# Altium schematic symbol library WCAP-ATG5.SchLib: 204 symbols (part 3 of 4)
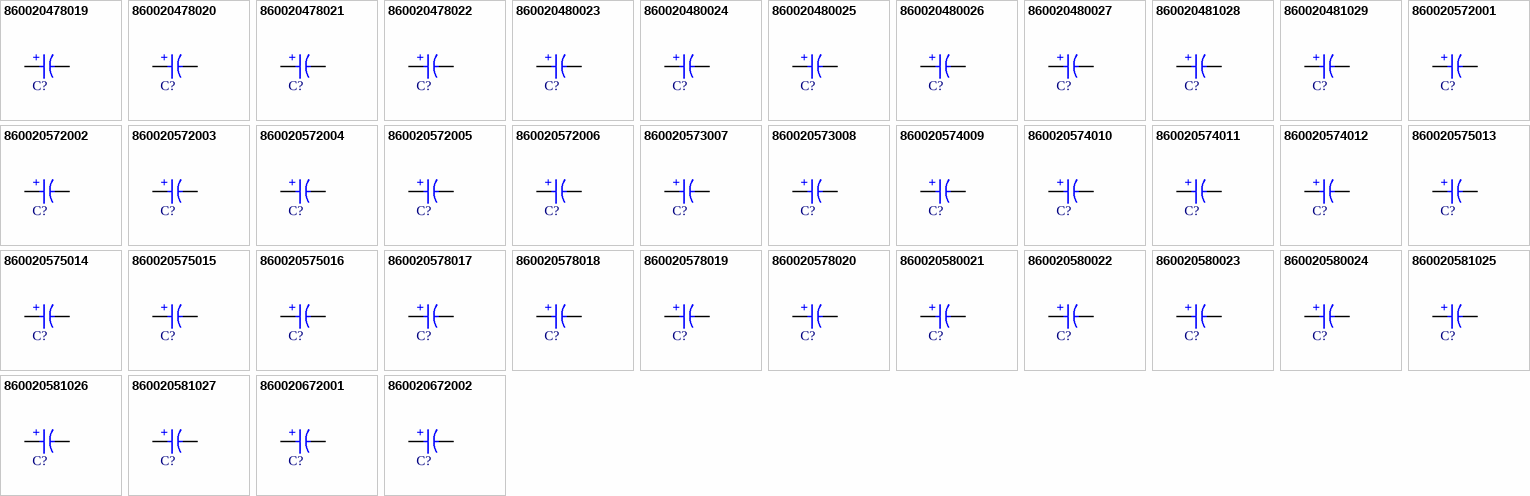
[diagram p7: symbols 860020478019 to 860020672002]

## 860020575013
designator C?, comment 330µF  (value not drawn)
WCAP-ATG5 Aluminum Electrolytic Capacitor, Radial, THT, D10 x H12.5mm, 330µF, 35V; Manufacturer Part Number: 860020575013; Manufacturer: Wurth Elektronik; Capacitance Tolerance: +/-20%; Dissipation Factor: 12%; Endurance: 2000h; Leakage Current: 115.5µA; Ripple Current: 400mA; Technical Reference: ATDF125331M035DSPA9B000; Category: Aluminum Electrolytic Capacitors; Match Code: WCAP-ATG5; ComponentLink1Description: Website Link; ComponentLink1URL: https://www.we-online.com/redexpert/article/860020575013?ad; ComponentLink2Description: Datasheet Link; ComponentLink2URL: https://www.we-online.com/redexpert/spec/860020575013?ad; Mount: Through Hole; Operating Temperature Max: 105°C; Operating Temperature Min: -40°C; Packaging: Ammo Pack; Height: 12.5mm; Diameter: 10mm; Capacitance: 330µF; Rated Voltage (DC): 35V
footprint WCAP-ATG5_D10H12.5
simulation model 860020575013_330uF
pins: 1 P, 2 N
text: +

## 860020575014
designator C?, comment 470µF  (value not drawn)
WCAP-ATG5 Aluminum Electrolytic Capacitor, Radial, THT, D10 x H16mm, 470µF, 35V; Manufacturer Part Number: 860020575014; Manufacturer: Wurth Elektronik; Capacitance Tolerance: +/-20%; Dissipation Factor: 12%; Endurance: 2000h; Leakage Current: 164.5µA; Ripple Current: 520mA; Technical Reference: ATDF160471M035DSPAAB000; Category: Aluminum Electrolytic Capacitors; Match Code: WCAP-ATG5; ComponentLink1Description: Website Link; ComponentLink1URL: https://www.we-online.com/redexpert/article/860020575014?ad; ComponentLink2Description: Datasheet Link; ComponentLink2URL: https://www.we-online.com/redexpert/spec/860020575014?ad; Mount: Through Hole; Operating Temperature Max: 105°C; Operating Temperature Min: -40°C; Packaging: Ammo Pack; Height: 16mm; Diameter: 10mm; Capacitance: 470µF; Rated Voltage (DC): 35V
footprint WCAP-ATG5_D10H16
simulation model 860020575014_470uF
pins: 1 P, 2 N
text: +

## 860020575015
designator C?, comment 560µF  (value not drawn)
WCAP-ATG5 Aluminum Electrolytic Capacitor, Radial, THT, D10 x H20mm, 560µF, 35V; Manufacturer Part Number: 860020575015; Manufacturer: Wurth Elektronik; Capacitance Tolerance: +/-20%; Dissipation Factor: 12%; Endurance: 2000h; Leakage Current: 196µA; Ripple Current: 540mA; Technical Reference: ATDF200561M035DSPAAB000; Category: Aluminum Electrolytic Capacitors; Match Code: WCAP-ATG5; ComponentLink1Description: Website Link; ComponentLink1URL: https://www.we-online.com/redexpert/article/860020575015?ad; ComponentLink2Description: Datasheet Link; ComponentLink2URL: https://www.we-online.com/redexpert/spec/860020575015?ad; Mount: Through Hole; Operating Temperature Max: 105°C; Operating Temperature Min: -40°C; Packaging: Ammo Pack; Height: 20mm; Diameter: 10mm; Capacitance: 560µF; Rated Voltage (DC): 35V
footprint WCAP-ATG5_D10H20
simulation model 860020575015_560uF
pins: 1 P, 2 N
text: +

## 860020575016
designator C?, comment 680µF  (value not drawn)
WCAP-ATG5 Aluminum Electrolytic Capacitor, Radial, THT, D10 x H20mm, 680µF, 35V; Manufacturer Part Number: 860020575016; Manufacturer: Wurth Elektronik; Capacitance Tolerance: +/-20%; Dissipation Factor: 12%; Endurance: 2000h; Leakage Current: 238µA; Ripple Current: 560mA; Technical Reference: ATDF200681M035DSPAAB000; Category: Aluminum Electrolytic Capacitors; Match Code: WCAP-ATG5; ComponentLink1Description: Website Link; ComponentLink1URL: https://www.we-online.com/redexpert/article/860020575016?ad; ComponentLink2Description: Datasheet Link; ComponentLink2URL: https://www.we-online.com/redexpert/spec/860020575016?ad; Mount: Through Hole; Operating Temperature Max: 105°C; Operating Temperature Min: -40°C; Packaging: Ammo Pack; Height: 20mm; Diameter: 10mm; Capacitance: 680µF; Rated Voltage (DC): 35V
footprint WCAP-ATG5_D10H20
simulation model 860020575016_680uF
pins: 1 P, 2 N
text: +

## 860020578017
designator C?, comment 820µF  (value not drawn)
WCAP-ATG5 Aluminum Electrolytic Capacitor, Radial, THT, D13 x H20mm, 820µF, 35V; Manufacturer Part Number: 860020578017; Manufacturer: Wurth Elektronik; Capacitance Tolerance: +/-20%; Dissipation Factor: 12%; Endurance: 2000h; Leakage Current: 287µA; Ripple Current: 760mA; Technical Reference: ATDI200821M035DSPACB000; Category: Aluminum Electrolytic Capacitors; Match Code: WCAP-ATG5; ComponentLink1Description: Website Link; ComponentLink1URL: https://www.we-online.com/redexpert/article/860020578017?ad; ComponentLink2Description: Datasheet Link; ComponentLink2URL: https://www.we-online.com/redexpert/spec/860020578017?ad; Mount: Through Hole; Operating Temperature Max: 105°C; Operating Temperature Min: -40°C; Packaging: Ammo Pack; Height: 20mm; Diameter: 13mm; Capacitance: 820µF; Rated Voltage (DC): 35V
footprint WCAP-ATG5_D13H20
simulation model 860020578017_820uF
pins: 1 P, 2 N
text: +

## 860020578018
designator C?, comment 1000µF  (value not drawn)
WCAP-ATG5 Aluminum Electrolytic Capacitor, Radial, THT, D13 x H20mm, 1000µF, 35V; Manufacturer Part Number: 860020578018; Manufacturer: Wurth Elektronik; Capacitance Tolerance: +/-20%; Dissipation Factor: 12%; Endurance: 2000h; Leakage Current: 350µA; Ripple Current: 830mA; Technical Reference: ATDI200102M035DSPACB000; Category: Aluminum Electrolytic Capacitors; Match Code: WCAP-ATG5; ComponentLink1Description: Website Link; ComponentLink1URL: https://www.we-online.com/redexpert/article/860020578018?ad; ComponentLink2Description: Datasheet Link; ComponentLink2URL: https://www.we-online.com/redexpert/spec/860020578018?ad; Mount: Through Hole; Operating Temperature Max: 105°C; Operating Temperature Min: -40°C; Packaging: Ammo Pack; Height: 20mm; Diameter: 13mm; Capacitance: 1000µF; Rated Voltage (DC): 35V
footprint WCAP-ATG5_D13H20
simulation model 860020578018_1mF
pins: 1 P, 2 N
text: +

## 860020578019
designator C?, comment 1200µF  (value not drawn)
WCAP-ATG5 Aluminum Electrolytic Capacitor, Radial, THT, D13 x H20mm, 1200µF, 35V; Manufacturer Part Number: 860020578019; Manufacturer: Wurth Elektronik; Capacitance Tolerance: +/-20%; Dissipation Factor: 12%; Endurance: 2000h; Leakage Current: 420µA; Ripple Current: 900mA; Technical Reference: ATDI200122M035DSPACB000; Category: Aluminum Electrolytic Capacitors; Match Code: WCAP-ATG5; ComponentLink1Description: Website Link; ComponentLink1URL: https://www.we-online.com/redexpert/article/860020578019?ad; ComponentLink2Description: Datasheet Link; ComponentLink2URL: https://www.we-online.com/redexpert/spec/860020578019?ad; Mount: Through Hole; Operating Temperature Max: 105°C; Operating Temperature Min: -40°C; Packaging: Ammo Pack; Height: 20mm; Diameter: 13mm; Capacitance: 1200µF; Rated Voltage (DC): 35V
footprint WCAP-ATG5_D13H20
simulation model 860020578019_1.2mF
pins: 1 P, 2 N
text: +

## 860020578020
designator C?, comment 1500µF  (value not drawn)
WCAP-ATG5 Aluminum Electrolytic Capacitor, Radial, THT, D13 x H25mm, 1500µF, 35V; Manufacturer Part Number: 860020578020; Manufacturer: Wurth Elektronik; Capacitance Tolerance: +/-20%; Dissipation Factor: 12%; Endurance: 2000h; Leakage Current: 525µA; Ripple Current: 960mA; Technical Reference: ATDI250152M035DSPACB000; Category: Aluminum Electrolytic Capacitors; Match Code: WCAP-ATG5; ComponentLink1Description: Website Link; ComponentLink1URL: https://www.we-online.com/redexpert/article/860020578020?ad; ComponentLink2Description: Datasheet Link; ComponentLink2URL: https://www.we-online.com/redexpert/spec/860020578020?ad; Mount: Through Hole; Operating Temperature Max: 105°C; Operating Temperature Min: -40°C; Packaging: Ammo Pack; Height: 25mm; Diameter: 13mm; Capacitance: 1500µF; Rated Voltage (DC): 35V
footprint WCAP-ATG5_D13H25
simulation model 860020578020_1.5mF
pins: 1 P, 2 N
text: +

## 860020580021
designator C?, comment 1800µF  (value not drawn)
WCAP-ATG5 Aluminum Electrolytic Capacitor, Radial, THT, D16 x H25mm, 1800µF, 35V; Manufacturer Part Number: 860020580021; Manufacturer: Wurth Elektronik; Capacitance Tolerance: +/-20%; Dissipation Factor: 12%; Endurance: 2000h; Leakage Current: 630µA; Ripple Current: 1150mA; Technical Reference: ATDK250182M035DSPAEB000; Category: Aluminum Electrolytic Capacitors; Match Code: WCAP-ATG5; ComponentLink1Description: Website Link; ComponentLink1URL: https://www.we-online.com/redexpert/article/860020580021?ad; ComponentLink2Description: Datasheet Link; ComponentLink2URL: https://www.we-online.com/redexpert/spec/860020580021?ad; Mount: Through Hole; Operating Temperature Max: 105°C; Operating Temperature Min: -40°C; Packaging: Ammo Pack; Height: 25mm; Diameter: 16mm; Capacitance: 1800µF; Rated Voltage (DC): 35V
footprint WCAP-ATG5_D16H25
simulation model 860020580021_1.8mF
pins: 1 P, 2 N
text: +

## 860020580022
designator C?, comment 2200µF  (value not drawn)
WCAP-ATG5 Aluminum Electrolytic Capacitor, Radial, THT, D16 x H25mm, 2200µF, 35V; Manufacturer Part Number: 860020580022; Manufacturer: Wurth Elektronik; Capacitance Tolerance: +/-20%; Dissipation Factor: 12%; Endurance: 2000h; Leakage Current: 770µA; Ripple Current: 1290mA; Technical Reference: ATDK250222M035DSPAEB000; Category: Aluminum Electrolytic Capacitors; Match Code: WCAP-ATG5; ComponentLink1Description: Website Link; ComponentLink1URL: https://www.we-online.com/redexpert/article/860020580022?ad; ComponentLink2Description: Datasheet Link; ComponentLink2URL: https://www.we-online.com/redexpert/spec/860020580022?ad; Mount: Through Hole; Operating Temperature Max: 105°C; Operating Temperature Min: -40°C; Packaging: Ammo Pack; Height: 25mm; Diameter: 16mm; Capacitance: 2200µF; Rated Voltage (DC): 35V
footprint WCAP-ATG5_D16H25
simulation model 860020580022_2.2mF
pins: 1 P, 2 N
text: +

## 860020580023
designator C?, comment 2700µF  (value not drawn)
WCAP-ATG5 Aluminum Electrolytic Capacitor, Radial, THT, D16 x H31.5mm, 2700µF, 35V; Manufacturer Part Number: 860020580023; Manufacturer: Wurth Elektronik; Capacitance Tolerance: +/-20%; Dissipation Factor: 12%; Endurance: 2000h; Leakage Current: 945µA; Ripple Current: 1480mA; Technical Reference: ATDK315272M035DSPADB000; Category: Aluminum Electrolytic Capacitors; Match Code: WCAP-ATG5; ComponentLink1Description: Website Link; ComponentLink1URL: https://www.we-online.com/redexpert/article/860020580023?ad; ComponentLink2Description: Datasheet Link; ComponentLink2URL: https://www.we-online.com/redexpert/spec/860020580023?ad; Mount: Through Hole; Operating Temperature Max: 105°C; Operating Temperature Min: -40°C; Packaging: Ammo Pack; Height: 31.5mm; Diameter: 16mm; Capacitance: 2700µF; Rated Voltage (DC): 35V
footprint WCAP-ATG5_D16H31.5
simulation model 860020580023_2.7mF
pins: 1 P, 2 N
text: +

## 860020580024
designator C?, comment 3300µF  (value not drawn)
WCAP-ATG5 Aluminum Electrolytic Capacitor, Radial, THT, D16 x H35.5mm, 3300µF, 35V; Manufacturer Part Number: 860020580024; Manufacturer: Wurth Elektronik; Capacitance Tolerance: +/-20%; Dissipation Factor: 12%; Endurance: 2000h; Leakage Current: 1155µA; Ripple Current: 1650mA; Technical Reference: ATDK355332M035DSPADB000; Category: Aluminum Electrolytic Capacitors; Match Code: WCAP-ATG5; ComponentLink1Description: Website Link; ComponentLink1URL: https://www.we-online.com/redexpert/article/860020580024?ad; ComponentLink2Description: Datasheet Link; ComponentLink2URL: https://www.we-online.com/redexpert/spec/860020580024?ad; Mount: Through Hole; Operating Temperature Max: 105°C; Operating Temperature Min: -40°C; Packaging: Ammo Pack; Height: 35.5mm; Diameter: 16mm; Capacitance: 3300µF; Rated Voltage (DC): 35V
footprint WCAP-ATG5_D16H35.5
simulation model 860020580024_3.3mF
pins: 1 P, 2 N
text: +

## 860020581025
designator C?, comment 3900µF  (value not drawn)
WCAP-ATG5 Aluminum Electrolytic Capacitor, Radial, THT, D18 x H31.5mm, 3900µF, 35V; Manufacturer Part Number: 860020581025; Manufacturer: Wurth Elektronik; Capacitance Tolerance: +/-20%; Dissipation Factor: 12%; Endurance: 2000h; Leakage Current: 1365µA; Ripple Current: 1820mA; Technical Reference: ATDL315392M035DSPAEB000; Category: Aluminum Electrolytic Capacitors; Match Code: WCAP-ATG5; ComponentLink1Description: Website Link; ComponentLink1URL: https://www.we-online.com/redexpert/article/860020581025?ad; ComponentLink2Description: Datasheet Link; ComponentLink2URL: https://www.we-online.com/redexpert/spec/860020581025?ad; Mount: Through Hole; Operating Temperature Max: 105°C; Operating Temperature Min: -40°C; Packaging: Ammo Pack; Height: 31.5mm; Diameter: 18mm; Capacitance: 3900µF; Rated Voltage (DC): 35V
footprint WCAP-ATG5_D18H31.5
simulation model 860020581025_3.9mF
pins: 1 P, 2 N
text: +

## 860020581026
designator C?, comment 4700µF  (value not drawn)
WCAP-ATG5 Aluminum Electrolytic Capacitor, Radial, THT, D18 x H35.5mm, 4700µF, 35V; Manufacturer Part Number: 860020581026; Manufacturer: Wurth Elektronik; Capacitance Tolerance: +/-20%; Dissipation Factor: 12%; Endurance: 2000h; Leakage Current: 1645µA; Ripple Current: 1900mA; Technical Reference: ATDL355472M035DSPAEB000; Category: Aluminum Electrolytic Capacitors; Match Code: WCAP-ATG5; ComponentLink1Description: Website Link; ComponentLink1URL: https://www.we-online.com/redexpert/article/860020581026?ad; ComponentLink2Description: Datasheet Link; ComponentLink2URL: https://www.we-online.com/redexpert/spec/860020581026?ad; Mount: Through Hole; Operating Temperature Max: 105°C; Operating Temperature Min: -40°C; Packaging: Ammo Pack; Height: 35.5mm; Diameter: 18mm; Capacitance: 4700µF; Rated Voltage (DC): 35V
footprint WCAP-ATG5_D18H35.5
simulation model 860020581026_4.7mF
pins: 1 P, 2 N
text: +

## 860020581027
designator C?, comment 5600µF  (value not drawn)
WCAP-ATG5 Aluminum Electrolytic Capacitor, Radial, THT, D18 x H35.5mm, 5600µF, 35V; Manufacturer Part Number: 860020581027; Manufacturer: Wurth Elektronik; Capacitance Tolerance: +/-20%; Dissipation Factor: 12%; Endurance: 2000h; Leakage Current: 1960µA; Ripple Current: 2000mA; Technical Reference: ATDL355562M035DSPAEB000; Category: Aluminum Electrolytic Capacitors; Match Code: WCAP-ATG5; ComponentLink1Description: Website Link; ComponentLink1URL: https://www.we-online.com/redexpert/article/860020581027?ad; ComponentLink2Description: Datasheet Link; ComponentLink2URL: https://www.we-online.com/redexpert/spec/860020581027?ad; Mount: Through Hole; Operating Temperature Max: 105°C; Operating Temperature Min: -40°C; Packaging: Ammo Pack; Height: 35.5mm; Diameter: 18mm; Capacitance: 5600µF; Rated Voltage (DC): 35V
footprint WCAP-ATG5_D18H35.5
simulation model 860020581027_5.6mF
pins: 1 P, 2 N
text: +

## 860020672001
designator C?, comment 0.1µF  (value not drawn)
WCAP-ATG5 Aluminum Electrolytic Capacitor, Radial, THT, D5 x H11mm, 0.1µF, 50V; Manufacturer Part Number: 860020672001; Manufacturer: Wurth Elektronik; Capacitance Tolerance: +/-20%; Dissipation Factor: 10%; Endurance: 2000h; Leakage Current: 3µA; Ripple Current: 1.3mA; Technical Reference: ATDC110R10M050DSPA3B000; Category: Aluminum Electrolytic Capacitors; Match Code: WCAP-ATG5; ComponentLink1Description: Website Link; ComponentLink1URL: https://www.we-online.com/redexpert/article/860020672001?ad; ComponentLink2Description: Datasheet Link; ComponentLink2URL: https://www.we-online.com/redexpert/spec/860020672001?ad; Mount: Through Hole; Operating Temperature Max: 105°C; Operating Temperature Min: -40°C; Packaging: Ammo Pack; Height: 11mm; Diameter: 5mm; Capacitance: 0.1µF; Rated Voltage (DC): 50V
footprint WCAP-ATG5_D5H11
simulation model 860020672001_100nF
pins: 1 P, 2 N
text: +

## 860020672002
designator C?, comment 0.22µF  (value not drawn)
WCAP-ATG5 Aluminum Electrolytic Capacitor, Radial, THT, D5 x H11mm, 0.22µF, 50V; Manufacturer Part Number: 860020672002; Manufacturer: Wurth Elektronik; Capacitance Tolerance: +/-20%; Dissipation Factor: 10%; Endurance: 2000h; Leakage Current: 3µA; Ripple Current: 2.9mA; Technical Reference: ATDC110R22M050DSPA3B000; Category: Aluminum Electrolytic Capacitors; Match Code: WCAP-ATG5; ComponentLink1Description: Website Link; ComponentLink1URL: https://www.we-online.com/redexpert/article/860020672002?ad; ComponentLink2Description: Datasheet Link; ComponentLink2URL: https://www.we-online.com/redexpert/spec/860020672002?ad; Mount: Through Hole; Operating Temperature Max: 105°C; Operating Temperature Min: -40°C; Packaging: Ammo Pack; Height: 11mm; Diameter: 5mm; Capacitance: 0.22µF; Rated Voltage (DC): 50V
footprint WCAP-ATG5_D5H11
simulation model 860020672002_220nF
pins: 1 P, 2 N
text: +

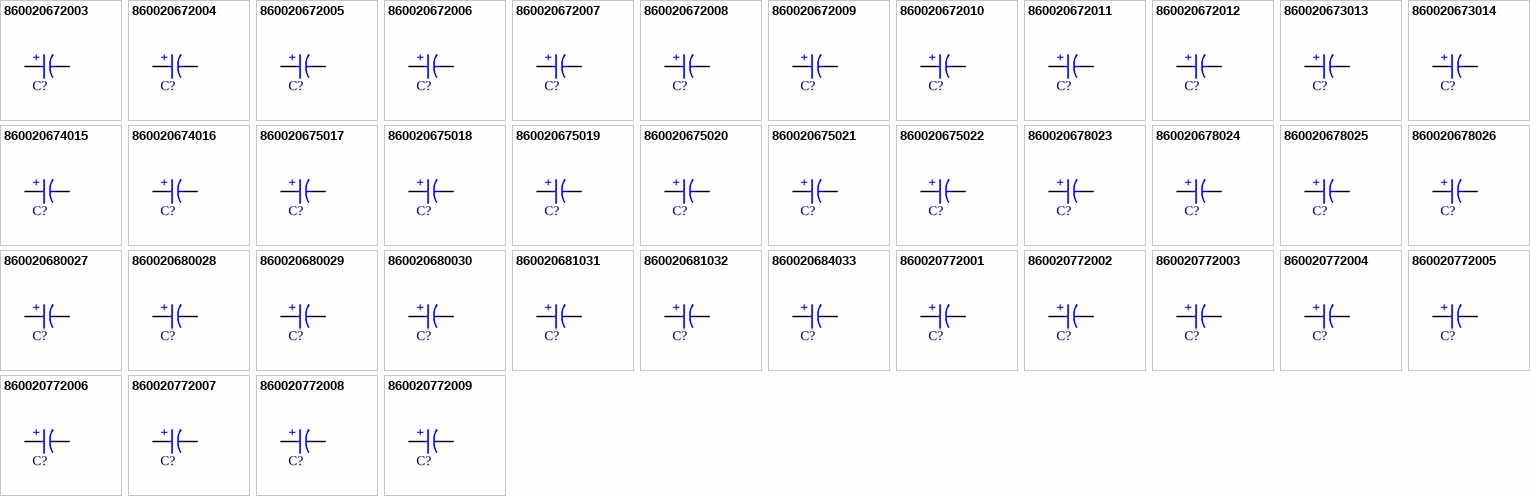
[diagram p3: symbols 860020672003 to 860020772009]

## 860020672003
designator C?, comment 0.33µF  (value not drawn)
WCAP-ATG5 Aluminum Electrolytic Capacitor, Radial, THT, D5 x H11mm, 0.33µF, 50V; Manufacturer Part Number: 860020672003; Manufacturer: Wurth Elektronik; Capacitance Tolerance: +/-20%; Dissipation Factor: 10%; Endurance: 2000h; Leakage Current: 3µA; Ripple Current: 4mA; Technical Reference: ATDC110R33M050DSPA3B000; Category: Aluminum Electrolytic Capacitors; Match Code: WCAP-ATG5; ComponentLink1Description: Website Link; ComponentLink1URL: https://www.we-online.com/redexpert/article/860020672003?ad; ComponentLink2Description: Datasheet Link; ComponentLink2URL: https://www.we-online.com/redexpert/spec/860020672003?ad; Mount: Through Hole; Operating Temperature Max: 105°C; Operating Temperature Min: -40°C; Packaging: Ammo Pack; Height: 11mm; Diameter: 5mm; Capacitance: 0.33µF; Rated Voltage (DC): 50V
footprint WCAP-ATG5_D5H11
simulation model 860020672003_330nF
pins: 1 P, 2 N
text: +

## 860020672004
designator C?, comment 0.47µF  (value not drawn)
WCAP-ATG5 Aluminum Electrolytic Capacitor, Radial, THT, D5 x H11mm, 0.47µF, 50V; Manufacturer Part Number: 860020672004; Manufacturer: Wurth Elektronik; Capacitance Tolerance: +/-20%; Dissipation Factor: 10%; Endurance: 2000h; Leakage Current: 3µA; Ripple Current: 7mA; Technical Reference: ATDC110R47M050DSPA3B000; Category: Aluminum Electrolytic Capacitors; Match Code: WCAP-ATG5; ComponentLink1Description: Website Link; ComponentLink1URL: https://www.we-online.com/redexpert/article/860020672004?ad; ComponentLink2Description: Datasheet Link; ComponentLink2URL: https://www.we-online.com/redexpert/spec/860020672004?ad; Mount: Through Hole; Operating Temperature Max: 105°C; Operating Temperature Min: -40°C; Packaging: Ammo Pack; Height: 11mm; Diameter: 5mm; Capacitance: 0.47µF; Rated Voltage (DC): 50V
footprint WCAP-ATG5_D5H11
simulation model 860020672004_470nF
pins: 1 P, 2 N
text: +

## 860020672005
designator C?, comment 1µF  (value not drawn)
WCAP-ATG5 Aluminum Electrolytic Capacitor, Radial, THT, D5 x H11mm, 1µF, 50V; Manufacturer Part Number: 860020672005; Manufacturer: Wurth Elektronik; Capacitance Tolerance: +/-20%; Dissipation Factor: 10%; Endurance: 2000h; Leakage Current: 3µA; Ripple Current: 13mA; Technical Reference: ATDC110010M050DSPA3B000; Category: Aluminum Electrolytic Capacitors; Match Code: WCAP-ATG5; ComponentLink1Description: Website Link; ComponentLink1URL: https://www.we-online.com/redexpert/article/860020672005?ad; ComponentLink2Description: Datasheet Link; ComponentLink2URL: https://www.we-online.com/redexpert/spec/860020672005?ad; Mount: Through Hole; Operating Temperature Max: 105°C; Operating Temperature Min: -40°C; Packaging: Ammo Pack; Height: 11mm; Diameter: 5mm; Capacitance: 1µF; Rated Voltage (DC): 50V
footprint WCAP-ATG5_D5H11
simulation model 860020672005_1uF
pins: 1 P, 2 N
text: +

## 860020672006
designator C?, comment 2.2µF  (value not drawn)
WCAP-ATG5 Aluminum Electrolytic Capacitor, Radial, THT, D5 x H11mm, 2.2µF, 50V; Manufacturer Part Number: 860020672006; Manufacturer: Wurth Elektronik; Capacitance Tolerance: +/-20%; Dissipation Factor: 10%; Endurance: 2000h; Leakage Current: 3µA; Ripple Current: 20mA; Technical Reference: ATDC1102R2M050DSPA3B000; Category: Aluminum Electrolytic Capacitors; Match Code: WCAP-ATG5; ComponentLink1Description: Website Link; ComponentLink1URL: https://www.we-online.com/redexpert/article/860020672006?ad; ComponentLink2Description: Datasheet Link; ComponentLink2URL: https://www.we-online.com/redexpert/spec/860020672006?ad; Mount: Through Hole; Operating Temperature Max: 105°C; Operating Temperature Min: -40°C; Packaging: Ammo Pack; Height: 11mm; Diameter: 5mm; Capacitance: 2.2µF; Rated Voltage (DC): 50V
footprint WCAP-ATG5_D5H11
simulation model 860020672006_2.2uF
pins: 1 P, 2 N
text: +

## 860020672007
designator C?, comment 3.3µF  (value not drawn)
WCAP-ATG5 Aluminum Electrolytic Capacitor, Radial, THT, D5 x H11mm, 3.3µF, 50V; Manufacturer Part Number: 860020672007; Manufacturer: Wurth Elektronik; Capacitance Tolerance: +/-20%; Dissipation Factor: 10%; Endurance: 2000h; Leakage Current: 3µA; Ripple Current: 26mA; Technical Reference: ATDC1103R3M050DSPA3B000; Category: Aluminum Electrolytic Capacitors; Match Code: WCAP-ATG5; ComponentLink1Description: Website Link; ComponentLink1URL: https://www.we-online.com/redexpert/article/860020672007?ad; ComponentLink2Description: Datasheet Link; ComponentLink2URL: https://www.we-online.com/redexpert/spec/860020672007?ad; Mount: Through Hole; Operating Temperature Max: 105°C; Operating Temperature Min: -40°C; Packaging: Ammo Pack; Height: 11mm; Diameter: 5mm; Capacitance: 3.3µF; Rated Voltage (DC): 50V
footprint WCAP-ATG5_D5H11
simulation model 860020672007_3.3uF
pins: 1 P, 2 N
text: +

## 860020672008
designator C?, comment 4.7µF  (value not drawn)
WCAP-ATG5 Aluminum Electrolytic Capacitor, Radial, THT, D5 x H11mm, 4.7µF, 50V; Manufacturer Part Number: 860020672008; Manufacturer: Wurth Elektronik; Capacitance Tolerance: +/-20%; Dissipation Factor: 10%; Endurance: 2000h; Leakage Current: 3µA; Ripple Current: 32mA; Technical Reference: ATDC1104R7M050DSPA3B000; Category: Aluminum Electrolytic Capacitors; Match Code: WCAP-ATG5; ComponentLink1Description: Website Link; ComponentLink1URL: https://www.we-online.com/redexpert/article/860020672008?ad; ComponentLink2Description: Datasheet Link; ComponentLink2URL: https://www.we-online.com/redexpert/spec/860020672008?ad; Mount: Through Hole; Operating Temperature Max: 105°C; Operating Temperature Min: -40°C; Packaging: Ammo Pack; Height: 11mm; Diameter: 5mm; Capacitance: 4.7µF; Rated Voltage (DC): 50V
footprint WCAP-ATG5_D5H11
simulation model 860020672008_4.7uF
pins: 1 P, 2 N
text: +

## 860020672009
designator C?, comment 6.8µF  (value not drawn)
WCAP-ATG5 Aluminum Electrolytic Capacitor, Radial, THT, D5 x H11mm, 6.8µF, 50V; Manufacturer Part Number: 860020672009; Manufacturer: Wurth Elektronik; Capacitance Tolerance: +/-20%; Dissipation Factor: 10%; Endurance: 2000h; Leakage Current: 3.4µA; Ripple Current: 40mA; Technical Reference: ATDC1106R8M050DSPA3B000; Category: Aluminum Electrolytic Capacitors; Match Code: WCAP-ATG5; ComponentLink1Description: Website Link; ComponentLink1URL: https://www.we-online.com/redexpert/article/860020672009?ad; ComponentLink2Description: Datasheet Link; ComponentLink2URL: https://www.we-online.com/redexpert/spec/860020672009?ad; Mount: Through Hole; Operating Temperature Max: 105°C; Operating Temperature Min: -40°C; Packaging: Ammo Pack; Height: 11mm; Diameter: 5mm; Capacitance: 6.8µF; Rated Voltage (DC): 50V
footprint WCAP-ATG5_D5H11
simulation model 860020672009_6.8uF
pins: 1 P, 2 N
text: +

## 860020672010
designator C?, comment 10µF  (value not drawn)
WCAP-ATG5 Aluminum Electrolytic Capacitor, Radial, THT, D5 x H11mm, 10µF, 50V; Manufacturer Part Number: 860020672010; Manufacturer: Wurth Elektronik; Capacitance Tolerance: +/-20%; Dissipation Factor: 10%; Endurance: 2000h; Leakage Current: 5µA; Ripple Current: 48mA; Technical Reference: ATDC110100M050DSPA3B000; Category: Aluminum Electrolytic Capacitors; Match Code: WCAP-ATG5; ComponentLink1Description: Website Link; ComponentLink1URL: https://www.we-online.com/redexpert/article/860020672010?ad; ComponentLink2Description: Datasheet Link; ComponentLink2URL: https://www.we-online.com/redexpert/spec/860020672010?ad; Mount: Through Hole; Operating Temperature Max: 105°C; Operating Temperature Min: -40°C; Packaging: Ammo Pack; Height: 11mm; Diameter: 5mm; Capacitance: 10µF; Rated Voltage (DC): 50V
footprint WCAP-ATG5_D5H11
simulation model 860020672010_10uF
pins: 1 P, 2 N
text: +

## 860020672011
designator C?, comment 22µF  (value not drawn)
WCAP-ATG5 Aluminum Electrolytic Capacitor, Radial, THT, D5 x H11mm, 22µF, 50V; Manufacturer Part Number: 860020672011; Manufacturer: Wurth Elektronik; Capacitance Tolerance: +/-20%; Dissipation Factor: 10%; Endurance: 2000h; Leakage Current: 11µA; Ripple Current: 60mA; Technical Reference: ATDC110220M050DSPA3B000; Category: Aluminum Electrolytic Capacitors; Match Code: WCAP-ATG5; ComponentLink1Description: Website Link; ComponentLink1URL: https://www.we-online.com/redexpert/article/860020672011?ad; ComponentLink2Description: Datasheet Link; ComponentLink2URL: https://www.we-online.com/redexpert/spec/860020672011?ad; Mount: Through Hole; Operating Temperature Max: 105°C; Operating Temperature Min: -40°C; Packaging: Ammo Pack; Height: 11mm; Diameter: 5mm; Capacitance: 22µF; Rated Voltage (DC): 50V
footprint WCAP-ATG5_D5H11
simulation model 860020672011_22uF
pins: 1 P, 2 N
text: +

## 860020672012
designator C?, comment 33µF  (value not drawn)
WCAP-ATG5 Aluminum Electrolytic Capacitor, Radial, THT, D5 x H11mm, 33µF, 50V; Manufacturer Part Number: 860020672012; Manufacturer: Wurth Elektronik; Capacitance Tolerance: +/-20%; Dissipation Factor: 10%; Endurance: 2000h; Leakage Current: 16.5µA; Ripple Current: 75mA; Technical Reference: ATDC110330M050DSPA3B000; Category: Aluminum Electrolytic Capacitors; Match Code: WCAP-ATG5; ComponentLink1Description: Website Link; ComponentLink1URL: https://www.we-online.com/redexpert/article/860020672012?ad; ComponentLink2Description: Datasheet Link; ComponentLink2URL: https://www.we-online.com/redexpert/spec/860020672012?ad; Mount: Through Hole; Operating Temperature Max: 105°C; Operating Temperature Min: -40°C; Packaging: Ammo Pack; Height: 11mm; Diameter: 5mm; Capacitance: 33µF; Rated Voltage (DC): 50V
footprint WCAP-ATG5_D5H11
simulation model 860020672012_33uF
pins: 1 P, 2 N
text: +

## 860020673013
designator C?, comment 47µF  (value not drawn)
WCAP-ATG5 Aluminum Electrolytic Capacitor, Radial, THT, D6.3 x H11mm, 47µF, 50V; Manufacturer Part Number: 860020673013; Manufacturer: Wurth Elektronik; Capacitance Tolerance: +/-20%; Dissipation Factor: 10%; Endurance: 2000h; Leakage Current: 23.5µA; Ripple Current: 115mA; Technical Reference: ATDD110470M050DSPA4B000; Category: Aluminum Electrolytic Capacitors; Match Code: WCAP-ATG5; ComponentLink1Description: Website Link; ComponentLink1URL: https://www.we-online.com/redexpert/article/860020673013?ad; ComponentLink2Description: Datasheet Link; ComponentLink2URL: https://www.we-online.com/redexpert/spec/860020673013?ad; Mount: Through Hole; Operating Temperature Max: 105°C; Operating Temperature Min: -40°C; Packaging: Ammo Pack; Height: 11mm; Diameter: 6.3mm; Capacitance: 47µF; Rated Voltage (DC): 50V
footprint WCAP-ATG5_D6.3H11
simulation model 860020673013_47uF
pins: 1 P, 2 N
text: +

## 860020673014
designator C?, comment 68µF  (value not drawn)
WCAP-ATG5 Aluminum Electrolytic Capacitor, Radial, THT, D6.3 x H11mm, 68µF, 50V; Manufacturer Part Number: 860020673014; Manufacturer: Wurth Elektronik; Capacitance Tolerance: +/-20%; Dissipation Factor: 10%; Endurance: 2000h; Leakage Current: 34µA; Ripple Current: 130mA; Technical Reference: ATDD110680M050DSPA4B000; Category: Aluminum Electrolytic Capacitors; Match Code: WCAP-ATG5; ComponentLink1Description: Website Link; ComponentLink1URL: https://www.we-online.com/redexpert/article/860020673014?ad; ComponentLink2Description: Datasheet Link; ComponentLink2URL: https://www.we-online.com/redexpert/spec/860020673014?ad; Mount: Through Hole; Operating Temperature Max: 105°C; Operating Temperature Min: -40°C; Packaging: Ammo Pack; Height: 11mm; Diameter: 6.3mm; Capacitance: 68µF; Rated Voltage (DC): 50V
footprint WCAP-ATG5_D6.3H11
simulation model 860020673014_68uF
pins: 1 P, 2 N
text: +

## 860020674015
designator C?, comment 100µF  (value not drawn)
WCAP-ATG5 Aluminum Electrolytic Capacitor, Radial, THT, D8 x H11.5mm, 100µF, 50V; Manufacturer Part Number: 860020674015; Manufacturer: Wurth Elektronik; Capacitance Tolerance: +/-20%; Dissipation Factor: 10%; Endurance: 2000h; Leakage Current: 50µA; Ripple Current: 200mA; Technical Reference: ATDE115101M050DSPA7B000; Category: Aluminum Electrolytic Capacitors; Match Code: WCAP-ATG5; ComponentLink1Description: Website Link; ComponentLink1URL: https://www.we-online.com/redexpert/article/860020674015?ad; ComponentLink2Description: Datasheet Link; ComponentLink2URL: https://www.we-online.com/redexpert/spec/860020674015?ad; Mount: Through Hole; Operating Temperature Max: 105°C; Operating Temperature Min: -40°C; Packaging: Ammo Pack; Height: 11.5mm; Diameter: 8mm; Capacitance: 100µF; Rated Voltage (DC): 50V
footprint WCAP-ATG5_D8H11.5
simulation model 860020674015_100uF
pins: 1 P, 2 N
text: +

## 860020674016
designator C?, comment 120µF  (value not drawn)
WCAP-ATG5 Aluminum Electrolytic Capacitor, Radial, THT, D8 x H16mm, 120µF, 50V; Manufacturer Part Number: 860020674016; Manufacturer: Wurth Elektronik; Capacitance Tolerance: +/-20%; Dissipation Factor: 10%; Endurance: 2000h; Leakage Current: 60µA; Ripple Current: 220mA; Technical Reference: ATDE160121M050DSPA7B000; Category: Aluminum Electrolytic Capacitors; Match Code: WCAP-ATG5; ComponentLink1Description: Website Link; ComponentLink1URL: https://www.we-online.com/redexpert/article/860020674016?ad; ComponentLink2Description: Datasheet Link; ComponentLink2URL: https://www.we-online.com/redexpert/spec/860020674016?ad; Mount: Through Hole; Operating Temperature Max: 105°C; Operating Temperature Min: -40°C; Packaging: Ammo Pack; Height: 16mm; Diameter: 8mm; Capacitance: 120µF; Rated Voltage (DC): 50V
footprint WCAP-ATG5_D8H16
simulation model 860020674016_120uF
pins: 1 P, 2 N
text: +

## 860020675017
designator C?, comment 120µF  (value not drawn)
WCAP-ATG5 Aluminum Electrolytic Capacitor, Radial, THT, D10 x H12.5mm, 120µF, 50V; Manufacturer Part Number: 860020675017; Manufacturer: Wurth Elektronik; Capacitance Tolerance: +/-20%; Dissipation Factor: 10%; Endurance: 2000h; Leakage Current: 60µA; Ripple Current: 225mA; Technical Reference: ATDF125121M050DSPA9B000; Category: Aluminum Electrolytic Capacitors; Match Code: WCAP-ATG5; ComponentLink1Description: Website Link; ComponentLink1URL: https://www.we-online.com/redexpert/article/860020675017?ad; ComponentLink2Description: Datasheet Link; ComponentLink2URL: https://www.we-online.com/redexpert/spec/860020675017?ad; Mount: Through Hole; Operating Temperature Max: 105°C; Operating Temperature Min: -40°C; Packaging: Ammo Pack; Height: 12.5mm; Diameter: 10mm; Capacitance: 120µF; Rated Voltage (DC): 50V
footprint WCAP-ATG5_D10H12.5
simulation model 860020675017_120uF
pins: 1 P, 2 N
text: +

## 860020675018
designator C?, comment 150µF  (value not drawn)
WCAP-ATG5 Aluminum Electrolytic Capacitor, Radial, THT, D10 x H12.5mm, 150µF, 50V; Manufacturer Part Number: 860020675018; Manufacturer: Wurth Elektronik; Capacitance Tolerance: +/-20%; Dissipation Factor: 10%; Endurance: 2000h; Leakage Current: 75µA; Ripple Current: 245mA; Technical Reference: ATDF125151M050DSPA9B000; Category: Aluminum Electrolytic Capacitors; Match Code: WCAP-ATG5; ComponentLink1Description: Website Link; ComponentLink1URL: https://www.we-online.com/redexpert/article/860020675018?ad; ComponentLink2Description: Datasheet Link; ComponentLink2URL: https://www.we-online.com/redexpert/spec/860020675018?ad; Mount: Through Hole; Operating Temperature Max: 105°C; Operating Temperature Min: -40°C; Packaging: Ammo Pack; Height: 12.5mm; Diameter: 10mm; Capacitance: 150µF; Rated Voltage (DC): 50V
footprint WCAP-ATG5_D10H12.5
simulation model 860020675018_150uF
pins: 1 P, 2 N
text: +

## 860020675019
designator C?, comment 180µF  (value not drawn)
WCAP-ATG5 Aluminum Electrolytic Capacitor, Radial, THT, D10 x H12.5mm, 180µF, 50V; Manufacturer Part Number: 860020675019; Manufacturer: Wurth Elektronik; Capacitance Tolerance: +/-20%; Dissipation Factor: 10%; Endurance: 2000h; Leakage Current: 90µA; Ripple Current: 260mA; Technical Reference: ATDF125181M050DSPA9B000; Category: Aluminum Electrolytic Capacitors; Match Code: WCAP-ATG5; ComponentLink1Description: Website Link; ComponentLink1URL: https://www.we-online.com/redexpert/article/860020675019?ad; ComponentLink2Description: Datasheet Link; ComponentLink2URL: https://www.we-online.com/redexpert/spec/860020675019?ad; Mount: Through Hole; Operating Temperature Max: 105°C; Operating Temperature Min: -40°C; Packaging: Ammo Pack; Height: 12.5mm; Diameter: 10mm; Capacitance: 180µF; Rated Voltage (DC): 50V
footprint WCAP-ATG5_D10H12.5
simulation model 860020675019_180uF
pins: 1 P, 2 N
text: +

## 860020675020
designator C?, comment 220µF  (value not drawn)
WCAP-ATG5 Aluminum Electrolytic Capacitor, Radial, THT, D10 x H12.5mm, 220µF, 50V; Manufacturer Part Number: 860020675020; Manufacturer: Wurth Elektronik; Capacitance Tolerance: +/-20%; Dissipation Factor: 10%; Endurance: 2000h; Leakage Current: 110µA; Ripple Current: 345mA; Technical Reference: ATDF125221M050DSPA9B000; Category: Aluminum Electrolytic Capacitors; Match Code: WCAP-ATG5; ComponentLink1Description: Website Link; ComponentLink1URL: https://www.we-online.com/redexpert/article/860020675020?ad; ComponentLink2Description: Datasheet Link; ComponentLink2URL: https://www.we-online.com/redexpert/spec/860020675020?ad; Mount: Through Hole; Operating Temperature Max: 105°C; Operating Temperature Min: -40°C; Packaging: Ammo Pack; Height: 12.5mm; Diameter: 10mm; Capacitance: 220µF; Rated Voltage (DC): 50V
footprint WCAP-ATG5_D10H12.5
simulation model 860020675020_220uF
pins: 1 P, 2 N
text: +

## 860020675021
designator C?, comment 330µF  (value not drawn)
WCAP-ATG5 Aluminum Electrolytic Capacitor, Radial, THT, D10 x H16mm, 330µF, 50V; Manufacturer Part Number: 860020675021; Manufacturer: Wurth Elektronik; Capacitance Tolerance: +/-20%; Dissipation Factor: 10%; Endurance: 2000h; Leakage Current: 165µA; Ripple Current: 450mA; Technical Reference: ATDF160331M050DSPAAB000; Category: Aluminum Electrolytic Capacitors; Match Code: WCAP-ATG5; ComponentLink1Description: Website Link; ComponentLink1URL: https://www.we-online.com/redexpert/article/860020675021?ad; ComponentLink2Description: Datasheet Link; ComponentLink2URL: https://www.we-online.com/redexpert/spec/860020675021?ad; Mount: Through Hole; Operating Temperature Max: 105°C; Operating Temperature Min: -40°C; Packaging: Ammo Pack; Height: 16mm; Diameter: 10mm; Capacitance: 330µF; Rated Voltage (DC): 50V
footprint WCAP-ATG5_D10H16
simulation model 860020675021_330uF
pins: 1 P, 2 N
text: +

## 860020675022
designator C?, comment 470µF  (value not drawn)
WCAP-ATG5 Aluminum Electrolytic Capacitor, Radial, THT, D10 x H20mm, 470µF, 50V; Manufacturer Part Number: 860020675022; Manufacturer: Wurth Elektronik; Capacitance Tolerance: +/-20%; Dissipation Factor: 10%; Endurance: 2000h; Leakage Current: 235µA; Ripple Current: 600mA; Technical Reference: ATDF200471M050DSPAAB000; Category: Aluminum Electrolytic Capacitors; Match Code: WCAP-ATG5; ComponentLink1Description: Website Link; ComponentLink1URL: https://www.we-online.com/redexpert/article/860020675022?ad; ComponentLink2Description: Datasheet Link; ComponentLink2URL: https://www.we-online.com/redexpert/spec/860020675022?ad; Mount: Through Hole; Operating Temperature Max: 105°C; Operating Temperature Min: -40°C; Packaging: Ammo Pack; Height: 20mm; Diameter: 10mm; Capacitance: 470µF; Rated Voltage (DC): 50V
footprint WCAP-ATG5_D10H20
simulation model 860020675022_470uF
pins: 1 P, 2 N
text: +

## 860020678023
designator C?, comment 560µF  (value not drawn)
WCAP-ATG5 Aluminum Electrolytic Capacitor, Radial, THT, D13 x H20mm, 560µF, 50V; Manufacturer Part Number: 860020678023; Manufacturer: Wurth Elektronik; Capacitance Tolerance: +/-20%; Dissipation Factor: 10%; Endurance: 2000h; Leakage Current: 280µA; Ripple Current: 660mA; Technical Reference: ATDI200561M050DSPACB000; Category: Aluminum Electrolytic Capacitors; Match Code: WCAP-ATG5; ComponentLink1Description: Website Link; ComponentLink1URL: https://www.we-online.com/redexpert/article/860020678023?ad; ComponentLink2Description: Datasheet Link; ComponentLink2URL: https://www.we-online.com/redexpert/spec/860020678023?ad; Mount: Through Hole; Operating Temperature Max: 105°C; Operating Temperature Min: -40°C; Packaging: Ammo Pack; Height: 20mm; Diameter: 13mm; Capacitance: 560µF; Rated Voltage (DC): 50V
footprint WCAP-ATG5_D13H20
simulation model 860020678023_560uF
pins: 1 P, 2 N
text: +

## 860020678024
designator C?, comment 680µF  (value not drawn)
WCAP-ATG5 Aluminum Electrolytic Capacitor, Radial, THT, D13 x H20mm, 680µF, 50V; Manufacturer Part Number: 860020678024; Manufacturer: Wurth Elektronik; Capacitance Tolerance: +/-20%; Dissipation Factor: 10%; Endurance: 2000h; Leakage Current: 340µA; Ripple Current: 700mA; Technical Reference: ATDI200681M050DSPACB000; Category: Aluminum Electrolytic Capacitors; Match Code: WCAP-ATG5; ComponentLink1Description: Website Link; ComponentLink1URL: https://www.we-online.com/redexpert/article/860020678024?ad; ComponentLink2Description: Datasheet Link; ComponentLink2URL: https://www.we-online.com/redexpert/spec/860020678024?ad; Mount: Through Hole; Operating Temperature Max: 105°C; Operating Temperature Min: -40°C; Packaging: Ammo Pack; Height: 20mm; Diameter: 13mm; Capacitance: 680µF; Rated Voltage (DC): 50V
footprint WCAP-ATG5_D13H20
simulation model 860020678024_680uF
pins: 1 P, 2 N
text: +

## 860020678025
designator C?, comment 820µF  (value not drawn)
WCAP-ATG5 Aluminum Electrolytic Capacitor, Radial, THT, D13 x H25mm, 820µF, 50V; Manufacturer Part Number: 860020678025; Manufacturer: Wurth Elektronik; Capacitance Tolerance: +/-20%; Dissipation Factor: 10%; Endurance: 2000h; Leakage Current: 410µA; Ripple Current: 850mA; Technical Reference: ATDI250821M050DSPACB000; Category: Aluminum Electrolytic Capacitors; Match Code: WCAP-ATG5; ComponentLink1Description: Website Link; ComponentLink1URL: https://www.we-online.com/redexpert/article/860020678025?ad; ComponentLink2Description: Datasheet Link; ComponentLink2URL: https://www.we-online.com/redexpert/spec/860020678025?ad; Mount: Through Hole; Operating Temperature Max: 105°C; Operating Temperature Min: -40°C; Packaging: Ammo Pack; Height: 25mm; Diameter: 13mm; Capacitance: 820µF; Rated Voltage (DC): 50V
footprint WCAP-ATG5_D13H25
simulation model 860020678025_820uF
pins: 1 P, 2 N
text: +

## 860020678026
designator C?, comment 1000µF  (value not drawn)
WCAP-ATG5 Aluminum Electrolytic Capacitor, Radial, THT, D13 x H25mm, 1000µF, 50V; Manufacturer Part Number: 860020678026; Manufacturer: Wurth Elektronik; Capacitance Tolerance: +/-20%; Dissipation Factor: 10%; Endurance: 2000h; Leakage Current: 500µA; Ripple Current: 890mA; Technical Reference: ATDI250102M050DSPACB000; Category: Aluminum Electrolytic Capacitors; Match Code: WCAP-ATG5; ComponentLink1Description: Website Link; ComponentLink1URL: https://www.we-online.com/redexpert/article/860020678026?ad; ComponentLink2Description: Datasheet Link; ComponentLink2URL: https://www.we-online.com/redexpert/spec/860020678026?ad; Mount: Through Hole; Operating Temperature Max: 105°C; Operating Temperature Min: -40°C; Packaging: Ammo Pack; Height: 25mm; Diameter: 13mm; Capacitance: 1000µF; Rated Voltage (DC): 50V
footprint WCAP-ATG5_D13H25
simulation model 860020678026_1mF
pins: 1 P, 2 N
text: +

## 860020680027
designator C?, comment 1200µF  (value not drawn)
WCAP-ATG5 Aluminum Electrolytic Capacitor, Radial, THT, D16 x H25mm, 1200µF, 50V; Manufacturer Part Number: 860020680027; Manufacturer: Wurth Elektronik; Capacitance Tolerance: +/-20%; Dissipation Factor: 10%; Endurance: 2000h; Leakage Current: 600µA; Ripple Current: 1150mA; Technical Reference: ATDK250122M050DSPAEB000; Category: Aluminum Electrolytic Capacitors; Match Code: WCAP-ATG5; ComponentLink1Description: Website Link; ComponentLink1URL: https://www.we-online.com/redexpert/article/860020680027?ad; ComponentLink2Description: Datasheet Link; ComponentLink2URL: https://www.we-online.com/redexpert/spec/860020680027?ad; Mount: Through Hole; Operating Temperature Max: 105°C; Operating Temperature Min: -40°C; Packaging: Ammo Pack; Height: 25mm; Diameter: 16mm; Capacitance: 1200µF; Rated Voltage (DC): 50V
footprint WCAP-ATG5_D16H25
simulation model 860020680027_1.2mF
pins: 1 P, 2 N
text: +

## 860020680028
designator C?, comment 1500µF  (value not drawn)
WCAP-ATG5 Aluminum Electrolytic Capacitor, Radial, THT, D16 x H31.5mm, 1500µF, 50V; Manufacturer Part Number: 860020680028; Manufacturer: Wurth Elektronik; Capacitance Tolerance: +/-20%; Dissipation Factor: 10%; Endurance: 2000h; Leakage Current: 750µA; Ripple Current: 1300mA; Technical Reference: ATDK315152M050DSPADB000; Category: Aluminum Electrolytic Capacitors; Match Code: WCAP-ATG5; ComponentLink1Description: Website Link; ComponentLink1URL: https://www.we-online.com/redexpert/article/860020680028?ad; ComponentLink2Description: Datasheet Link; ComponentLink2URL: https://www.we-online.com/redexpert/spec/860020680028?ad; Mount: Through Hole; Operating Temperature Max: 105°C; Operating Temperature Min: -40°C; Packaging: Ammo Pack; Height: 31.5mm; Diameter: 16mm; Capacitance: 1500µF; Rated Voltage (DC): 50V
footprint WCAP-ATG5_D16H31.5
simulation model 860020680028_1.5mF
pins: 1 P, 2 N
text: +

## 860020680029
designator C?, comment 1800µF  (value not drawn)
WCAP-ATG5 Aluminum Electrolytic Capacitor, Radial, THT, D16 x H35.5mm, 1800µF, 50V; Manufacturer Part Number: 860020680029; Manufacturer: Wurth Elektronik; Capacitance Tolerance: +/-20%; Dissipation Factor: 10%; Endurance: 2000h; Leakage Current: 900µA; Ripple Current: 1480mA; Technical Reference: ATDK355182M050DSPADB000; Category: Aluminum Electrolytic Capacitors; Match Code: WCAP-ATG5; ComponentLink1Description: Website Link; ComponentLink1URL: https://www.we-online.com/redexpert/article/860020680029?ad; ComponentLink2Description: Datasheet Link; ComponentLink2URL: https://www.we-online.com/redexpert/spec/860020680029?ad; Mount: Through Hole; Operating Temperature Max: 105°C; Operating Temperature Min: -40°C; Packaging: Ammo Pack; Height: 35.5mm; Diameter: 16mm; Capacitance: 1800µF; Rated Voltage (DC): 50V
footprint WCAP-ATG5_D16H35.5
simulation model 860020680029_1.8mF
pins: 1 P, 2 N
text: +

## 860020680030
designator C?, comment 2200µF  (value not drawn)
WCAP-ATG5 Aluminum Electrolytic Capacitor, Radial, THT, D16 x H35.5mm, 2200µF, 50V; Manufacturer Part Number: 860020680030; Manufacturer: Wurth Elektronik; Capacitance Tolerance: +/-20%; Dissipation Factor: 10%; Endurance: 2000h; Leakage Current: 1100µA; Ripple Current: 1530mA; Technical Reference: ATDK355222M050DSPADB000; Category: Aluminum Electrolytic Capacitors; Match Code: WCAP-ATG5; ComponentLink1Description: Website Link; ComponentLink1URL: https://www.we-online.com/redexpert/article/860020680030?ad; ComponentLink2Description: Datasheet Link; ComponentLink2URL: https://www.we-online.com/redexpert/spec/860020680030?ad; Mount: Through Hole; Operating Temperature Max: 105°C; Operating Temperature Min: -40°C; Packaging: Ammo Pack; Height: 35.5mm; Diameter: 16mm; Capacitance: 2200µF; Rated Voltage (DC): 50V
footprint WCAP-ATG5_D16H35.5
simulation model 860020680030_2.2mF
pins: 1 P, 2 N
text: +

## 860020681031
designator C?, comment 2700µF  (value not drawn)
WCAP-ATG5 Aluminum Electrolytic Capacitor, Radial, THT, D18 x H35.5mm, 2700µF, 50V; Manufacturer Part Number: 860020681031; Manufacturer: Wurth Elektronik; Capacitance Tolerance: +/-20%; Dissipation Factor: 10%; Endurance: 2000h; Leakage Current: 1350µA; Ripple Current: 1590mA; Technical Reference: ATDL355272M050DSPAEB000; Category: Aluminum Electrolytic Capacitors; Match Code: WCAP-ATG5; ComponentLink1Description: Website Link; ComponentLink1URL: https://www.we-online.com/redexpert/article/860020681031?ad; ComponentLink2Description: Datasheet Link; ComponentLink2URL: https://www.we-online.com/redexpert/spec/860020681031?ad; Mount: Through Hole; Operating Temperature Max: 105°C; Operating Temperature Min: -40°C; Packaging: Ammo Pack; Height: 35.5mm; Diameter: 18mm; Capacitance: 2700µF; Rated Voltage (DC): 50V
footprint WCAP-ATG5_D18H35.5
simulation model 860020681031_2.7mF
pins: 1 P, 2 N
text: +

## 860020681032
designator C?, comment 3300µF  (value not drawn)
WCAP-ATG5 Aluminum Electrolytic Capacitor, Radial, THT, D18 x H35.5mm, 3300µF, 50V; Manufacturer Part Number: 860020681032; Manufacturer: Wurth Elektronik; Capacitance Tolerance: +/-20%; Dissipation Factor: 10%; Endurance: 2000h; Leakage Current: 1650µA; Ripple Current: 1750mA; Technical Reference: ATDL355332M050DSPAEB000; Category: Aluminum Electrolytic Capacitors; Match Code: WCAP-ATG5; ComponentLink1Description: Website Link; ComponentLink1URL: https://www.we-online.com/redexpert/article/860020681032?ad; ComponentLink2Description: Datasheet Link; ComponentLink2URL: https://www.we-online.com/redexpert/spec/860020681032?ad; Mount: Through Hole; Operating Temperature Max: 105°C; Operating Temperature Min: -40°C; Packaging: Ammo Pack; Height: 35.5mm; Diameter: 18mm; Capacitance: 3300µF; Rated Voltage (DC): 50V
footprint WCAP-ATG5_D18H35.5
simulation model 860020681032_3.3mF
pins: 1 P, 2 N
text: +

## 860020684033
designator C?, comment 10000µF  (value not drawn)
WCAP-ATG5 Aluminum Electrolytic Capacitor, Radial, THT, D25 x H51mm, 10000µF, 50V; Manufacturer Part Number: 860020684033; Manufacturer: Wurth Elektronik; Capacitance Tolerance: +/-20%; Dissipation Factor: 28%; Endurance: 2000h; Leakage Current: 5000µA; Ripple Current: 3600mA; Technical Reference: ATDO510103M050DSPS2B000; Category: Aluminum Electrolytic Capacitors; Match Code: WCAP-ATG5; ComponentLink1Description: Website Link; ComponentLink1URL: https://www.we-online.com/redexpert/article/860020684033?ad; ComponentLink2Description: Datasheet Link; ComponentLink2URL: https://www.we-online.com/redexpert/spec/860020684033?ad; Mount: Through Hole; Operating Temperature Max: 105°C; Operating Temperature Min: -40°C; Packaging: Tray; Case/Size Code: D25 x H51mm; Height: 51mm; Diameter: 25mm; Capacitance: 10000µF; Rated Voltage (DC): 50V
footprint WCAP-ATG5_D25H51
simulation model 860020684033_10mF
pins: 1 P, 2 N
text: +

## 860020772001
designator C?, comment 0.1µF  (value not drawn)
WCAP-ATG5 Aluminum Electrolytic Capacitor, Radial, THT, D5 x H11mm, 0.1µF, 63V; Manufacturer Part Number: 860020772001; Manufacturer: Wurth Elektronik; Capacitance Tolerance: +/-20%; Dissipation Factor: 9%; Endurance: 2000h; Leakage Current: 3µA; Ripple Current: 1.3mA; Technical Reference: ATDC110R10M063DSPA3B000; Category: Aluminum Electrolytic Capacitors; Match Code: WCAP-ATG5; ComponentLink1Description: Website Link; ComponentLink1URL: https://www.we-online.com/redexpert/article/860020772001?ad; ComponentLink2Description: Datasheet Link; ComponentLink2URL: https://www.we-online.com/redexpert/spec/860020772001?ad; Mount: Through Hole; Operating Temperature Max: 105°C; Operating Temperature Min: -40°C; Packaging: Ammo Pack; Height: 11mm; Diameter: 5mm; Capacitance: 0.1µF; Rated Voltage (DC): 63V
footprint WCAP-ATG5_D5H11
simulation model 860020772001_100nF
pins: 1 P, 2 N
text: +

## 860020772002
designator C?, comment 0.22µF  (value not drawn)
WCAP-ATG5 Aluminum Electrolytic Capacitor, Radial, THT, D5 x H11mm, 0.22µF, 63V; Manufacturer Part Number: 860020772002; Manufacturer: Wurth Elektronik; Capacitance Tolerance: +/-20%; Dissipation Factor: 9%; Endurance: 2000h; Leakage Current: 3µA; Ripple Current: 2.9mA; Technical Reference: ATDC110R22M063DSPA3B000; Category: Aluminum Electrolytic Capacitors; Match Code: WCAP-ATG5; ComponentLink1Description: Website Link; ComponentLink1URL: https://www.we-online.com/redexpert/article/860020772002?ad; ComponentLink2Description: Datasheet Link; ComponentLink2URL: https://www.we-online.com/redexpert/spec/860020772002?ad; Mount: Through Hole; Operating Temperature Max: 105°C; Operating Temperature Min: -40°C; Packaging: Ammo Pack; Height: 11mm; Diameter: 5mm; Capacitance: 0.22µF; Rated Voltage (DC): 63V
footprint WCAP-ATG5_D5H11
simulation model 860020772002_220nF
pins: 1 P, 2 N
text: +

## 860020772003
designator C?, comment 0.33µF  (value not drawn)
WCAP-ATG5 Aluminum Electrolytic Capacitor, Radial, THT, D5 x H11mm, 0.33µF, 63V; Manufacturer Part Number: 860020772003; Manufacturer: Wurth Elektronik; Capacitance Tolerance: +/-20%; Dissipation Factor: 9%; Endurance: 2000h; Leakage Current: 3µA; Ripple Current: 4.5mA; Technical Reference: ATDC110R33M063DSPA3B000; Category: Aluminum Electrolytic Capacitors; Match Code: WCAP-ATG5; ComponentLink1Description: Website Link; ComponentLink1URL: https://www.we-online.com/redexpert/article/860020772003?ad; ComponentLink2Description: Datasheet Link; ComponentLink2URL: https://www.we-online.com/redexpert/spec/860020772003?ad; Mount: Through Hole; Operating Temperature Max: 105°C; Operating Temperature Min: -40°C; Packaging: Ammo Pack; Height: 11mm; Diameter: 5mm; Capacitance: 0.33µF; Rated Voltage (DC): 63V
footprint WCAP-ATG5_D5H11
simulation model 860020772003_330nF
pins: 1 P, 2 N
text: +

## 860020772004
designator C?, comment 0.47µF  (value not drawn)
WCAP-ATG5 Aluminum Electrolytic Capacitor, Radial, THT, D5 x H11mm, 0.47µF, 63V; Manufacturer Part Number: 860020772004; Manufacturer: Wurth Elektronik; Capacitance Tolerance: +/-20%; Dissipation Factor: 9%; Endurance: 2000h; Leakage Current: 3µA; Ripple Current: 7mA; Technical Reference: ATDC110R47M063DSPA3B000; Category: Aluminum Electrolytic Capacitors; Match Code: WCAP-ATG5; ComponentLink1Description: Website Link; ComponentLink1URL: https://www.we-online.com/redexpert/article/860020772004?ad; ComponentLink2Description: Datasheet Link; ComponentLink2URL: https://www.we-online.com/redexpert/spec/860020772004?ad; Mount: Through Hole; Operating Temperature Max: 105°C; Operating Temperature Min: -40°C; Packaging: Ammo Pack; Height: 11mm; Diameter: 5mm; Capacitance: 0.47µF; Rated Voltage (DC): 63V
footprint WCAP-ATG5_D5H11
simulation model 860020772004_470nF
pins: 1 P, 2 N
text: +